# Altium integrated library Buzzer.IntLib: 1 symbol
Pins are listed as number, name and electrical type; pins without a type are passive.

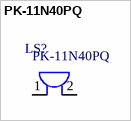
[diagram p0: symbol PK-11N40PQ]

## PK-11N40PQ
designator LS?  MPN: PK-11N40PQ  (hidden comment: *)
AUDIO PIEZO INDICATOR 3-5V TH; MFT: Mallory Sonalert Products Inc.; VALUE: PK-11N40PQ; LOAD: *; TYPE: TH; RATING: 3-5V
footprint PK-11N40PQ
pins: 1, 2